# EAGLE library part LSM333D (library BoneCapeParts)
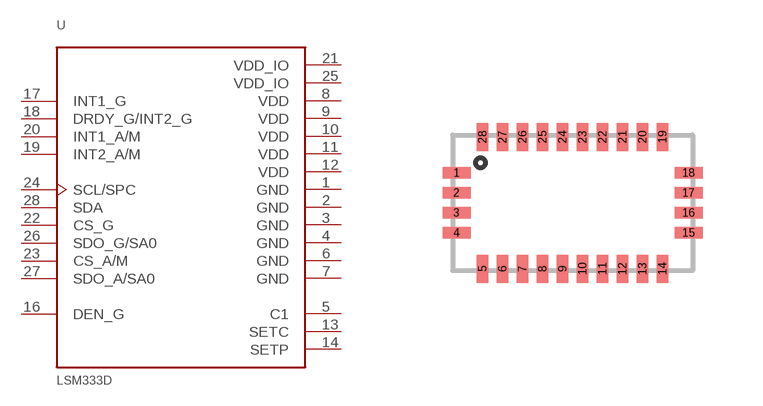
[diagram p6: symbol with the pads of LGA28; footprint LGA28]

Designator prefix -

## LSM333D  [LGA28]
1  GND  sup
2  GND  sup
3  GND  sup
4  GND  sup
5  C1  pas
6  GND  sup
7  GND  sup
8  VDD  sup
9  VDD  sup
10  VDD  sup
11  VDD  sup
12  VDD  sup
13  SETC  pas
14  SETP  pas
16  DEN_G  in
17  INT1_G  out
18  DRDY_G/INT2_G  out
19  INT2_A/M  out
20  INT1_A/M  out
21  VDD_IO  sup
22  CS_G  in
23  CS_A/M  in
24  SCL/SPC  oc
25  VDD_IO  sup
26  SDO_G/SA0
27  SDO_A/SA0
28  SDA  oc

## Footprint LGA28 (pad centres in mm)
smd 0.7 x 0.29: 1 -2.9,0.75; 2 -2.9,0.25; 3 -2.9,-0.25; 4 -2.9,-0.75; 15 2.9,-0.75; 16 2.9,-0.25; 17 2.9,0.25; 18 2.9,0.75
smd 0.29 x 0.7: 5 -2.25,-1.65; 6 -1.75,-1.65; 7 -1.25,-1.65; 8 -0.75,-1.65; 9 -0.25,-1.65; 10 0.25,-1.65; 11 0.75,-1.65; 12 1.25,-1.65; 13 1.75,-1.65; 14 2.25,-1.65; 19 2.25,1.65; 20 1.75,1.65; 21 1.25,1.65; 22 0.75,1.65; 23 0.25,1.65; 24 -0.25,1.65; 25 -0.75,1.65; 26 -1.25,1.65; 27 -1.75,1.65; 28 -2.25,1.65